# EAGLE library part RM6* (library score-relay)
Power Relay SCHRACK 3 pole 10 A, DC- or AC-coil Source: http://www.schrack.com/.. 5832.pdf
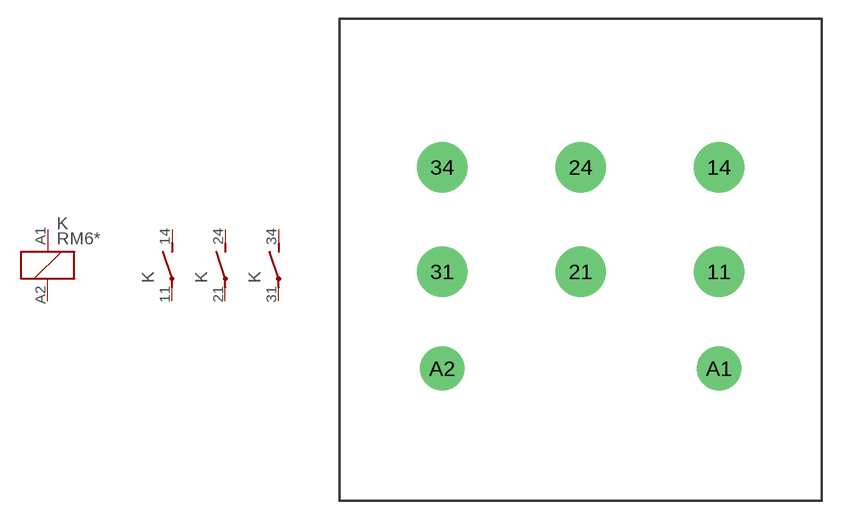
[diagram p151: symbol with the pads of RM-5; footprint RM-5]

Designator prefix K; gates 1=K 2=S 3=S 4=S

## RM607506 (OC_FARNELL: unknown; OC_NEWARK: unknown), RM607512 (OC_FARNELL: unknown; OC_NEWARK: unknown), RM607524 (MPN: RM607524; OC_FARNELL: unknown; OC_NEWARK: 48M7685), RM607548 (OC_FARNELL: unknown; OC_NEWARK: unknown), RM607560 (OC_FARNELL: unknown; OC_NEWARK: unknown), RM607615 (OC_FARNELL: unknown; OC_NEWARK: unknown), RM607730 (MPN: RM607730; OC_FARNELL: unknown; OC_NEWARK: 03M2867), RM607900 (OC_FARNELL: unknown; OC_NEWARK: unknown), RM607R06 (OC_FARNELL: unknown; OC_NEWARK: unknown), RM607R12 (OC_FARNELL: unknown; OC_NEWARK: unknown), RM607R24 (OC_FARNELL: unknown; OC_NEWARK: unknown), RM607R48 (OC_FARNELL: unknown; OC_NEWARK: unknown), RM607R60 (OC_FARNELL: unknown; OC_NEWARK: unknown), RM607S15 (OC_FARNELL: unknown; OC_NEWARK: unknown), RM607T30 (OC_FARNELL: unknown; OC_NEWARK: unknown), RM607V00 (OC_FARNELL: unknown; OC_NEWARK: unknown)  [RM-5]
11  2:P  pas
14  2:S  pas
21  3:P  pas
24  3:S  pas
31  4:P  pas
34  4:S  pas
A1  1:1  pas
A2  1:2  pas

## Footprint RM-5 (pad centres in mm)
Power Relay SCHRACK 3 pole 10 A, DC- or AC-coil Source: http://www.schrack.com/.. 5832.pdf
drill 2 pad 4: 11 11,-0.95; 14 11,7.35; 21 0,-0.95; 24 0,7.35; 31 -11,-0.95; 34 -11,7.35
drill 2 pad 3.5: A1 11,-8.65; A2 -11,-8.65